# Altium footprint library Connector-Header.PcbLib: 107 footprints (part 7 of 7)
Each footprint in its own frame and in the unit in brackets; x right, y up, seen from the top. Pads: shape width x height; smd on the part's side, far side on the other; paste and mask are expansions set on the pad; w line width, h text height; cw(c..) or ccw(c..) is an arc to the next point about the centre after c.
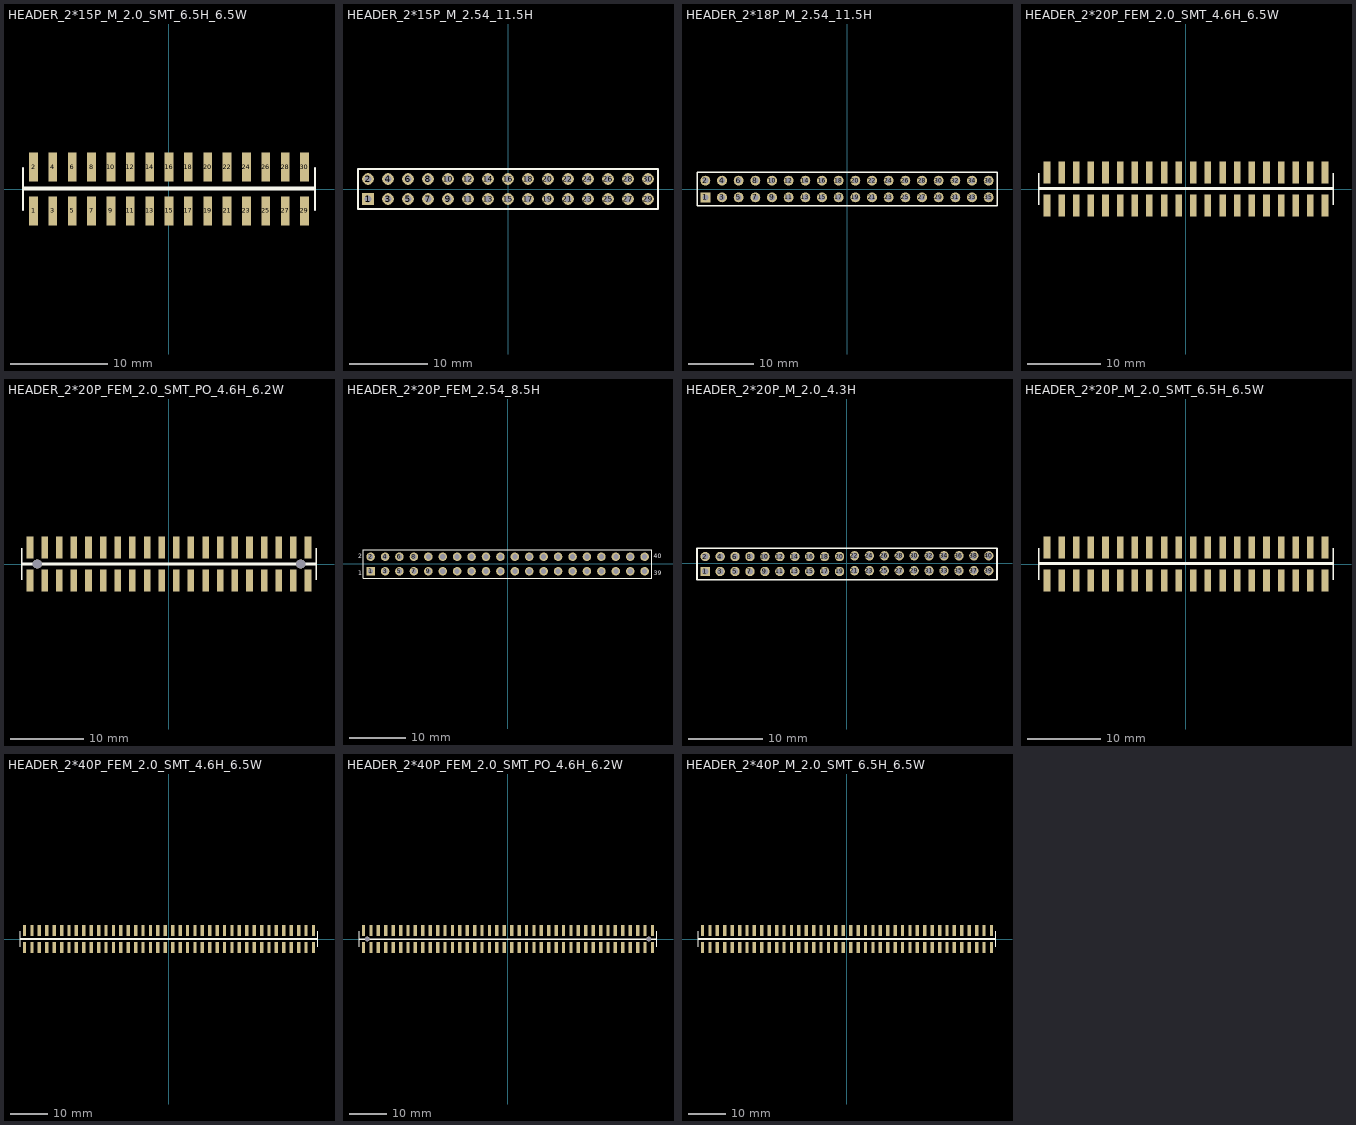
[diagram p6: the footprints below, top view; thin cyan lines are the x and y axes]

## HEADER_2*15P_M_2.0_SMT_6.5H_6.5W [mm]
pads (30):
  rect 0.9x3 smd: 1(-14,-2.25) 2(-14,2.25) 3(-12,-2.25) 4(-12,2.25) 5(-10,-2.25) 6(-10,2.25) 7(-8,-2.25) 8(-8,2.25) 9(-6,-2.25) 10(-6,2.25) 11(-4,-2.25) 12(-4,2.25) 13(-2,-2.25) 14(-2,2.25) 15(0,-2.25) 16(0,2.25) 17(2,-2.25) 18(2,2.25) 19(4,-2.25) 20(4,2.25) 21(6,-2.25) 22(6,2.25) 23(8,-2.25) 24(8,2.25) 25(10,-2.25) 26(10,2.25) 27(12,-2.25) 28(12,2.25) 29(14,-2.25) 30(14,2.25)
Top Overlay:
  lines w0.203: -15.1,-2.15 -15.1,2.15 ; -15.1,-0.05 15.1,-0.05 ; -15.1,0.15 15.1,0.15 ; 15.1,-2.15 15.1,2.15

## HEADER_2*15P_M_2.54_11.5H [mm] "Connector; Header; 18x2 Position"
pads (30):
  rect 1.5x1.5 hole 0.9: 1(-17.78,-1.27)
  round 1.5 hole 0.9: 2(-17.78,1.27) 3(-15.24,-1.27) 4(-15.24,1.27) 5(-12.7,-1.27) 6(-12.7,1.27) 7(-10.16,-1.27) 8(-10.16,1.27) 9(-7.62,-1.27) 10(-7.62,1.27) 11(-5.08,-1.27) 12(-5.08,1.27) 13(-2.54,-1.27) 14(-2.54,1.27) 15(0,-1.27) 16(0,1.27) 17(2.54,-1.27) 18(2.54,1.27) 19(5.08,-1.27) 20(5.08,1.27) 21(7.62,-1.27) 22(7.62,1.27) 23(10.16,-1.27) 24(10.16,1.27) 25(12.7,-1.27) 26(12.7,1.27) 27(15.24,-1.27) 28(15.24,1.27) 29(17.78,-1.27) 30(17.78,1.27)
Top Overlay:
  lines w0.2: -19.05,-2.54 19.05,-2.54 19.05,2.54 -19.05,2.54 -19.05,-2.54

## HEADER_2*18P_M_2.54_11.5H [mm] "Connector; Header; 18x2 Position"
pads (36):
  rect 1.5x1.5 hole 0.9: 1(-21.59,-1.27)
  round 1.5 hole 0.9: 2(-21.59,1.27) 3(-19.05,-1.27) 4(-19.05,1.27) 5(-16.51,-1.27) 6(-16.51,1.27) 7(-13.97,-1.27) 8(-13.97,1.27) 9(-11.43,-1.27) 10(-11.43,1.27) 11(-8.89,-1.27) 12(-8.89,1.27) 13(-6.35,-1.27) 14(-6.35,1.27) 15(-3.81,-1.27) 16(-3.81,1.27) 17(-1.27,-1.27) 18(-1.27,1.27) 19(1.27,-1.27) 20(1.27,1.27) 21(3.81,-1.27) 22(3.81,1.27) 23(6.35,-1.27) 24(6.35,1.27) 25(8.89,-1.27) 26(8.89,1.27) 27(11.43,-1.27) 28(11.43,1.27) 29(13.97,-1.27) 30(13.97,1.27) 31(16.51,-1.27) 32(16.51,1.27) 33(19.05,-1.27) 34(19.05,1.27) 35(21.59,-1.27) 36(21.59,1.27)
Top Overlay:
  lines w0.2: -22.86,-2.54 -22.86,2.54 22.86,2.54 22.86,-2.54 -22.86,-2.54

## HEADER_2*20P_FEM_2.0_SMT_4.6H_6.5W [mm]
pads (40):
  rect 0.9x3 smd: 1(-19,-2.25) 2(-19,2.25) 3(-17,-2.25) 4(-17,2.25) 5(-15,-2.25) 6(-15,2.25) 7(-13,-2.25) 8(-13,2.25) 9(-11,-2.25) 10(-11,2.25) 11(-9,-2.25) 12(-9,2.25) 13(-7,-2.25) 14(-7,2.25) 15(-5,-2.25) 16(-5,2.25) 17(-3,-2.25) 18(-3,2.25) 19(-1,-2.25) 20(-1,2.25) 21(1,-2.25) 22(1,2.25) 23(3,-2.25) 24(3,2.25) 25(5,-2.25) 26(5,2.25) 27(7,-2.25) 28(7,2.25) 29(9,-2.25) 30(9,2.25) 31(11,-2.25) 32(11,2.25) 33(13,-2.25) 34(13,2.25) 35(15,-2.25) 36(15,2.25) 37(17,-2.25) 38(17,2.25) 39(19,-2.25) 40(19,2.25)
Top Overlay:
  lines w0.203: -20.1,-2.15 -20.1,2.15 ; -20.1,-0.05 20.1,-0.05 ; -20.1,0.15 20.1,0.15 ; 20.1,-2.15 20.1,2.15

## HEADER_2*20P_FEM_2.0_SMT_PO_4.6H_6.2W [mm]
pads (42):
  rect 0.9x3 smd: 1(-19,-2.25) 2(-19,2.25) 3(-17,-2.25) 4(-17,2.25) 5(-15,-2.25) 6(-15,2.25) 7(-13,-2.25) 8(-13,2.25) 9(-11,-2.25) 10(-11,2.25) 11(-9,-2.25) 12(-9,2.25) 13(-7,-2.25) 14(-7,2.25) 15(-5,-2.25) 16(-5,2.25) 17(-3,-2.25) 18(-3,2.25) 19(-1,-2.25) 20(-1,2.25) 21(1,-2.25) 22(1,2.25) 23(3,-2.25) 24(3,2.25) 25(5,-2.25) 26(5,2.25) 27(7,-2.25) 28(7,2.25) 29(9,-2.25) 30(9,2.25) 31(11,-2.25) 32(11,2.25) 33(13,-2.25) 34(13,2.25) 35(15,-2.25) 36(15,2.25) 37(17,-2.25) 38(17,2.25) 39(19,-2.25) 40(19,2.25)
  round 1.25 hole 1.25: ""(-18,0) ""(18,0)
Top Overlay:
  lines w0.203: -20.1,-2.15 -20.1,2.15 ; -20.1,-0.1 20.1,-0.1 ; -20.1,0.1 20.1,0.1 ; 20.1,-2.15 20.1,2.15

## HEADER_2*20P_FEM_2.54_8.5H [mm]
pads (40):
  rect 1.5x1.5 hole 0.9: 1(-24.13,-1.27)
  round 1.5 hole 0.9: 2(-24.13,1.27) 3(-21.59,-1.27) 4(-21.59,1.27) 5(-19.05,-1.27) 6(-19.05,1.27) 7(-16.51,-1.27) 8(-16.51,1.27) 9(-13.97,-1.27) 10(-13.97,1.27) 11(-11.43,-1.27) 12(-11.43,1.27) 13(-8.89,-1.27) 14(-8.89,1.27) 15(-6.35,-1.27) 16(-6.35,1.27) 17(-3.81,-1.27) 18(-3.81,1.27) 19(-1.27,-1.27) 20(-1.27,1.27) 21(1.27,-1.27) 22(1.27,1.27) 23(3.81,-1.27) 24(3.81,1.27) 25(6.35,-1.27) 26(6.35,1.27) 27(8.89,-1.27) 28(8.89,1.27) 29(11.43,-1.27) 30(11.43,1.27) 31(13.97,-1.27) 32(13.97,1.27) 33(16.51,-1.27) 34(16.51,1.27) 35(19.05,-1.27) 36(19.05,1.27) 37(21.59,-1.27) 38(21.59,1.27) 39(24.13,-1.27) 40(24.13,1.27)
Top Overlay:
  lines w0.2: -25.4,-2.54 -25.4,2.54 25.4,2.54 25.4,-2.54 -25.4,-2.54
  text "39" at 25.718,-2 h0.76
  text "40" at 25.718,1.048 h0.76
  text "2" at -26.352,1.048 h0.76
  text "1" at -26.352,-2 h0.76
3D body "User Library-Header 2x20 2_54mm.step": height 8.75, standoff -2.35, extent -25.55,-2.46 25.55,2.54

## HEADER_2*20P_M_2.0_4.3H [mm]
pads (40):
  rect 1.25x1.25 hole 0.85: 1(-19,-1.1)
  round 1.25 hole 0.85: 2(-19,0.9) 3(-17,-1.1) 4(-17,0.9) 5(-15,-1.1) 6(-15,0.9) 7(-13,-1.1) 8(-13,0.9) 9(-11,-1.1) 10(-11,0.9) 11(-9,-1.1) 12(-9,0.9) 13(-7,-1.1) 14(-7,0.9) 15(-5,-1.1) 16(-5,0.9) 17(-3,-1.1) 18(-3,0.9) 19(-1,-1.1) 20(-1,0.9) 21(1,-1) 22(1,1) 23(3,-1) 24(3,1) 25(5,-1) 26(5,1) 27(7,-1) 28(7,1) 29(9,-1) 30(9,1) 31(11,-1) 32(11,1) 33(13,-1) 34(13,1) 35(15,-1) 36(15,1) 37(17,-1) 38(17,1) 39(19,-1) 40(19,1)
Top Overlay:
  lines w0.203: -20.1,-2.2 -20.1,2 20.1,2 20.1,-2.2 -20.1,-2.2

## HEADER_2*20P_M_2.0_SMT_6.5H_6.5W [mm]
pads (40):
  rect 0.9x3 smd: 1(-19,-2.25) 2(-19,2.25) 3(-17,-2.25) 4(-17,2.25) 5(-15,-2.25) 6(-15,2.25) 7(-13,-2.25) 8(-13,2.25) 9(-11,-2.25) 10(-11,2.25) 11(-9,-2.25) 12(-9,2.25) 13(-7,-2.25) 14(-7,2.25) 15(-5,-2.25) 16(-5,2.25) 17(-3,-2.25) 18(-3,2.25) 19(-1,-2.25) 20(-1,2.25) 21(1,-2.25) 22(1,2.25) 23(3,-2.25) 24(3,2.25) 25(5,-2.25) 26(5,2.25) 27(7,-2.25) 28(7,2.25) 29(9,-2.25) 30(9,2.25) 31(11,-2.25) 32(11,2.25) 33(13,-2.25) 34(13,2.25) 35(15,-2.25) 36(15,2.25) 37(17,-2.25) 38(17,2.25) 39(19,-2.25) 40(19,2.25)
Top Overlay:
  lines w0.203: -20.1,-2.15 -20.1,2.15 ; -20.1,-0.05 20.1,-0.05 ; -20.1,0.15 20.1,0.15 ; 20.1,-2.15 20.1,2.15

## HEADER_2*40P_FEM_2.0_SMT_4.6H_6.5W [mm]
pads (80):
  rect 0.9x3 smd: 1(-39,-2.25) 2(-39,2.25) 3(-37,-2.25) 4(-37,2.25) 5(-35,-2.25) 6(-35,2.25) 7(-33,-2.25) 8(-33,2.25) 9(-31,-2.25) 10(-31,2.25) 11(-29,-2.25) 12(-29,2.25) 13(-27,-2.25) 14(-27,2.25) 15(-25,-2.25) 16(-25,2.25) 17(-23,-2.25) 18(-23,2.25) 19(-21,-2.25) 20(-21,2.25) 21(-19,-2.25) 22(-19,2.25) 23(-17,-2.25) 24(-17,2.25) 25(-15,-2.25) 26(-15,2.25) 27(-13,-2.25) 28(-13,2.25) 29(-11,-2.25) 30(-11,2.25) 31(-9,-2.25) 32(-9,2.25) 33(-7,-2.25) 34(-7,2.25) 35(-5,-2.25) 36(-5,2.25) 37(-3,-2.25) 38(-3,2.25) 39(-1,-2.25) 40(-1,2.25) 41(1,-2.25) 42(1,2.25) 43(3,-2.25) 44(3,2.25) 45(5,-2.25) 46(5,2.25) 47(7,-2.25) 48(7,2.25) 49(9,-2.25) 50(9,2.25) 51(11,-2.25) 52(11,2.25) 53(13,-2.25) 54(13,2.25) 55(15,-2.25) 56(15,2.25) 57(17,-2.25) 58(17,2.25) 59(19,-2.25) 60(19,2.25) 61(21,-2.25) 62(21,2.25) 63(23,-2.25) 64(23,2.25) 65(25,-2.25) 66(25,2.25) 67(27,-2.25) 68(27,2.25) 69(29,-2.25) 70(29,2.25) 71(31,-2.25) 72(31,2.25) 73(33,-2.25) 74(33,2.25) 75(35,-2.25) 76(35,2.25) 77(37,-2.25) 78(37,2.25) 79(39,-2.25) 80(39,2.25)
Top Overlay:
  lines w0.203: -40.1,-2.15 -40.1,2.15 ; -40.1,-0.05 40.1,-0.05 ; -40.1,0.15 40.1,0.15 ; 40.1,-2.15 40.1,2.15

## HEADER_2*40P_FEM_2.0_SMT_PO_4.6H_6.2W [mm]
pads (82):
  rect 0.9x3 smd: 1(-39,-2.25) 2(-39,2.25) 3(-37,-2.25) 4(-37,2.25) 5(-35,-2.25) 6(-35,2.25) 7(-33,-2.25) 8(-33,2.25) 9(-31,-2.25) 10(-31,2.25) 11(-29,-2.25) 12(-29,2.25) 13(-27,-2.25) 14(-27,2.25) 15(-25,-2.25) 16(-25,2.25) 17(-23,-2.25) 18(-23,2.25) 19(-21,-2.25) 20(-21,2.25) 21(-19,-2.25) 22(-19,2.25) 23(-17,-2.25) 24(-17,2.25) 25(-15,-2.25) 26(-15,2.25) 27(-13,-2.25) 28(-13,2.25) 29(-11,-2.25) 30(-11,2.25) 31(-9,-2.25) 32(-9,2.25) 33(-7,-2.25) 34(-7,2.25) 35(-5,-2.25) 36(-5,2.25) 37(-3,-2.25) 38(-3,2.25) 39(-1,-2.25) 40(-1,2.25) 41(1,-2.25) 42(1,2.25) 43(3,-2.25) 44(3,2.25) 45(5,-2.25) 46(5,2.25) 47(7,-2.25) 48(7,2.25) 49(9,-2.25) 50(9,2.25) 51(11,-2.25) 52(11,2.25) 53(13,-2.25) 54(13,2.25) 55(15,-2.25) 56(15,2.25) 57(17,-2.25) 58(17,2.25) 59(19,-2.25) 60(19,2.25) 61(21,-2.25) 62(21,2.25) 63(23,-2.25) 64(23,2.25) 65(25,-2.25) 66(25,2.25) 67(27,-2.25) 68(27,2.25) 69(29,-2.25) 70(29,2.25) 71(31,-2.25) 72(31,2.25) 73(33,-2.25) 74(33,2.25) 75(35,-2.25) 76(35,2.25) 77(37,-2.25) 78(37,2.25) 79(39,-2.25) 80(39,2.25)
  round 1.25 hole 1.25: ""(-38,0) ""(38,0)
Top Overlay:
  lines w0.203: -40.1,-2.15 -40.1,2.15 ; -40.1,-0.1 40.1,-0.1 ; -40.1,0.1 40.1,0.1 ; 40.1,-2.15 40.1,2.15

## HEADER_2*40P_M_2.0_SMT_6.5H_6.5W [mm]
pads (80):
  rect 0.9x3 smd: 1(-39,-2.25) 2(-39,2.25) 3(-37,-2.25) 4(-37,2.25) 5(-35,-2.25) 6(-35,2.25) 7(-33,-2.25) 8(-33,2.25) 9(-31,-2.25) 10(-31,2.25) 11(-29,-2.25) 12(-29,2.25) 13(-27,-2.25) 14(-27,2.25) 15(-25,-2.25) 16(-25,2.25) 17(-23,-2.25) 18(-23,2.25) 19(-21,-2.25) 20(-21,2.25) 21(-19,-2.25) 22(-19,2.25) 23(-17,-2.25) 24(-17,2.25) 25(-15,-2.25) 26(-15,2.25) 27(-13,-2.25) 28(-13,2.25) 29(-11,-2.25) 30(-11,2.25) 31(-9,-2.25) 32(-9,2.25) 33(-7,-2.25) 34(-7,2.25) 35(-5,-2.25) 36(-5,2.25) 37(-3,-2.25) 38(-3,2.25) 39(-1,-2.25) 40(-1,2.25) 41(1,-2.25) 42(1,2.25) 43(3,-2.25) 44(3,2.25) 45(5,-2.25) 46(5,2.25) 47(7,-2.25) 48(7,2.25) 49(9,-2.25) 50(9,2.25) 51(11,-2.25) 52(11,2.25) 53(13,-2.25) 54(13,2.25) 55(15,-2.25) 56(15,2.25) 57(17,-2.25) 58(17,2.25) 59(19,-2.25) 60(19,2.25) 61(21,-2.25) 62(21,2.25) 63(23,-2.25) 64(23,2.25) 65(25,-2.25) 66(25,2.25) 67(27,-2.25) 68(27,2.25) 69(29,-2.25) 70(29,2.25) 71(31,-2.25) 72(31,2.25) 73(33,-2.25) 74(33,2.25) 75(35,-2.25) 76(35,2.25) 77(37,-2.25) 78(37,2.25) 79(39,-2.25) 80(39,2.25)
Top Overlay:
  lines w0.203: -40.1,-2.15 -40.1,2.15 ; -40.1,-0.05 40.1,-0.05 ; -40.1,0.15 40.1,0.15 ; 40.1,-2.15 40.1,2.15